# Altium schematic symbol library 0805 390R.Schlib: 1 symbol
Pins are listed as number, name and electrical type; pins without a type are passive.

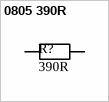
[diagram p0: symbol 0805 390R]

## 0805 390R
designator R?, comment value 390R  (hidden comment: Resistor)
390Ω ±1% 0.125W ±100ppm/℃ 0805 Chip Resistor - Surface Mount RoHS; LCSC Part #: C17655
footprint RES 0805_2012 (Chip Resistor, 2-Leads, Body 2.00x1.25mm, IPC Medium Density)
pins: 1, 2